# EAGLE library part SN65HVD232Q-Q1_D_8 (library custom)
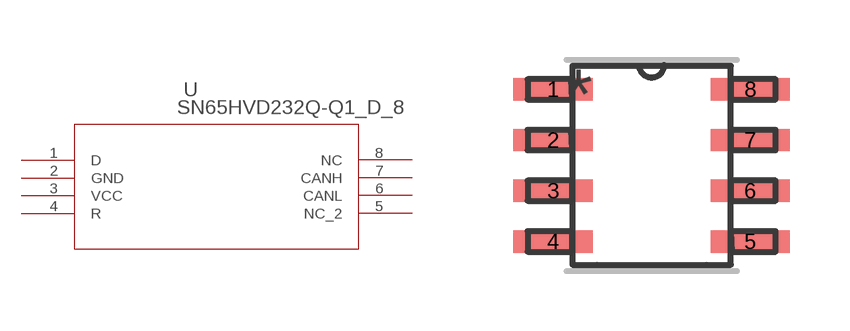
[diagram p7: symbol with the pads of D8; footprint D8]

Designator prefix U

## SN65HVD232Q-Q1_D_8 (DATASHEETURL: http://www.ti.com/lit/gpn/SN65HVD232Q-Q1; DESCRIPTION: Automotive Catalog CAN Transceiver; FAMILY_NAME: CAN; GENERIC_PART_NUMBER: SN65HVD232Q-Q1; INDUSTRY_STD_PKG_TYPE: SOIC; MANUFACTURER: Texas Instruments; MANUFACTURER_PART_NUMBER: sn65hvd232q-q1_d_8; PACKAGE_DESIGNATOR: D; PIN_COUNT: 8; VENDOR: Texas Instruments)  [D8]
1  D  in
2  GND  pwr
3  VCC  pwr
4  R  in
5  NC_2  pas
6  CANL  out
7  CANH  out
8  NC  pas

## Footprint D8 (pad centres in mm)
smd 1.981 x 0.559: 1 -2.464,1.905; 2 -2.464,0.635; 3 -2.464,-0.635; 4 -2.464,-1.905; 5 2.464,-1.905; 6 2.464,-0.635; 7 2.464,0.635; 8 2.464,1.905